# Altium schematic symbol library SNP411-31.Schlib: 1 symbol
Pins are listed as number, name and electrical type; pins without a type are passive.

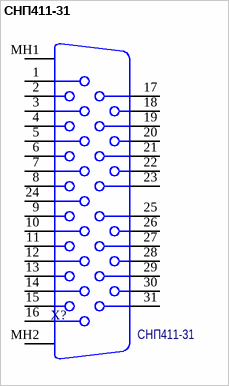
[diagram p0: symbol СНП411-31]

## СНП411-31
designator X?, comment Наименование: СНП411-31  (hidden comment: SNP411-31)
СНП411-31, распиновка со стороны платы; Назначение: Соединитель угловой на плату
footprint SNP411-31
pins: 1, 2, 3, 4, 5, 6, 7, 8, 9, 10, 11, 12, 13, 14, 15, 16, 17, 18 189, 19, 20, 21, 22, 23, 24, 25, 26, 27, 28, 29, 30, 31, MH1, MH2